# Altium schematic symbol library Comparators GOST.SchLib: 5 symbols
Pins are listed as number, name and electrical type; pins without a type are passive.

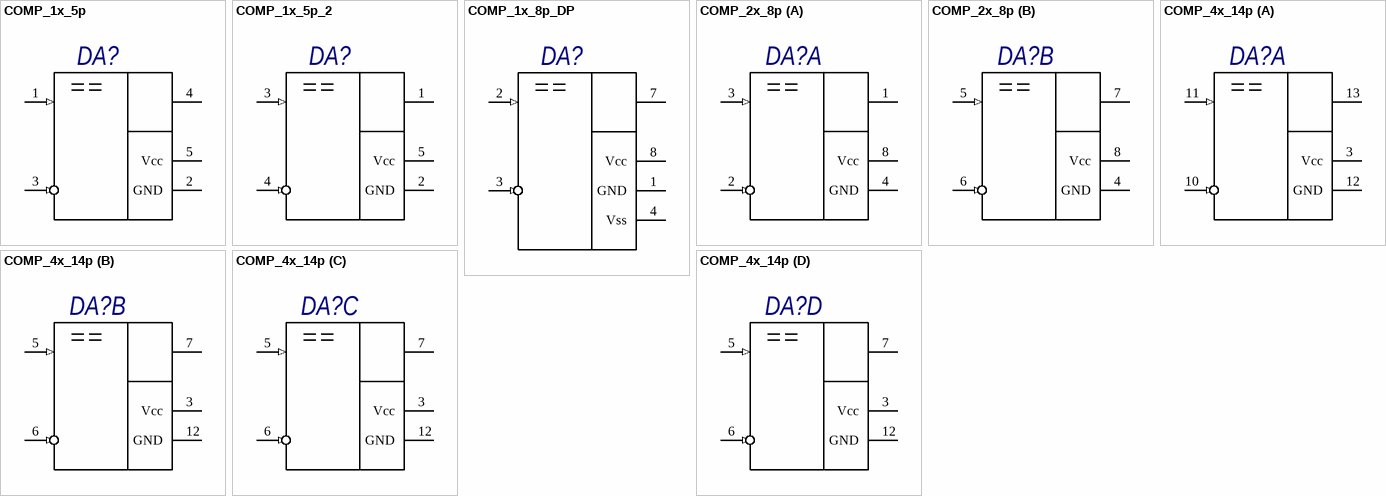
[diagram p0: symbols COMP_1x_5p to COMP_4x_14p]

## COMP_1x_5p
designator DA?
Type: Микросхема; Published: 07.08.2015; Publisher: Viktor Klishin
pins: 1 IN+ (in) "Вход неинверсный", 2 GND (power) "Вывод питания от источника отрицательного напряжения", 3 IN- (in) "Вход инверсный", 4 OUT (oc) "Выход", 5 Vcc (power) "Вывод питания от источника положительного напряжения"

## COMP_1x_5p_2
designator DA?
Type: Микросхема; Published: 07.08.2015; Publisher: Viktor Klishin
pins: 1 OUT (oc) "Выход", 2 GND (power) "Вывод питания от источника отрицательного напряжения", 3 IN+ (in) "Вход неинверсный", 4 IN- (in) "Вход инверсный", 5 Vcc (power) "Вывод питания от источника положительного напряжения"

## COMP_1x_8p_DP
designator DA?
Type: Микросхема; Published: 07.08.2015; Publisher: Viktor Klishin
pins: 1 GND (power) "Вывод питания - Общий", 2 IN+ (in) "Вход неинверсный", 3 IN- (in) "Вход инверсный", 4 Vss (power) "Вывод питания от источника отрицательного напряжения", 7 OUT (oc) "Выход", 8 Vcc (power) "Вывод питания от источника положительного напряжения"

## COMP_2x_8p
designator DA?
Type: Микросхема; Publisher: Viktor Klishin
pins on every part: 4 GND (power) "Вывод питания от источника отрицательного напряжения", 8 Vcc (power) "Вывод питания от источника положительного напряжения"
part A pins: 1 OUT (oc) "Выход", 2 IN- (in) "Вход инверсный", 3 IN+ (in) "Вход неинверсный"
part B pins: 5 IN+ (in) "Вход неинверсный", 6 IN- (in) "Вход инверсный", 7 OUT (oc) "Выход"

## COMP_4x_14p
designator DA?
Type: Микросхема; Published: 07.08.2015; Publisher: Viktor Klishin
pins on every part: 3 Vcc (power) "Вывод питания от источника положительного напряжения", 12 GND (power) "Вывод питания от источника отрицательного напряжения"
part A pins: 10 IN- (in) "Вход инверсный", 11 IN+ (in) "Вход неинверсный", 13 OUT (oc) "Выход"
part B pins: 5 IN+ (in) "Вход неинверсный", 6 IN- (in) "Вход инверсный", 7 OUT (oc) "Выход"
part C pins: 5 IN+ (in) "Вход неинверсный", 6 IN- (in) "Вход инверсный", 7 OUT (oc) "Выход"
part D pins: 5 IN+ (in) "Вход неинверсный", 6 IN- (in) "Вход инверсный", 7 OUT (oc) "Выход"